# EAGLE library part MULTIPLEXER_SN74 (library Multiplexer_SN74HC153PWR)
SN74 consists of 2 multiplexers built into a single IC
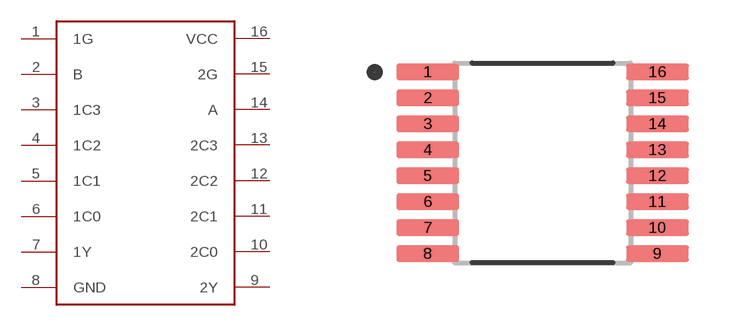
[diagram p0: symbol with the pads of SOP65P640X120-16N; footprint SOP65P640X120-16N]

Designator prefix -

## MULTIPLEXER_SN74  [SOP65P640X120-16N]
1  1G
2  B
3  1C3
4  1C2
5  1C1
6  1C0
7  1Y
8  GND
9  2Y
10  2C0
11  2C1
12  2C2
13  2C3
14  A
15  2G
16  VCC

## Footprint SOP65P640X120-16N (pad centres in mm)
smd 1.57 x 0.41: 1 -2.87,2.275; 2 -2.87,1.625; 3 -2.87,0.975; 4 -2.87,0.325; 5 -2.87,-0.325; 6 -2.87,-0.975; 7 -2.87,-1.625; 8 -2.87,-2.275; 9 2.87,-2.275; 10 2.87,-1.625; 11 2.87,-0.975; 12 2.87,-0.325; 13 2.87,0.325; 14 2.87,0.975; 15 2.87,1.625; 16 2.87,2.275